# EAGLE library part MC100ELT24 (library 1A-meinLib)
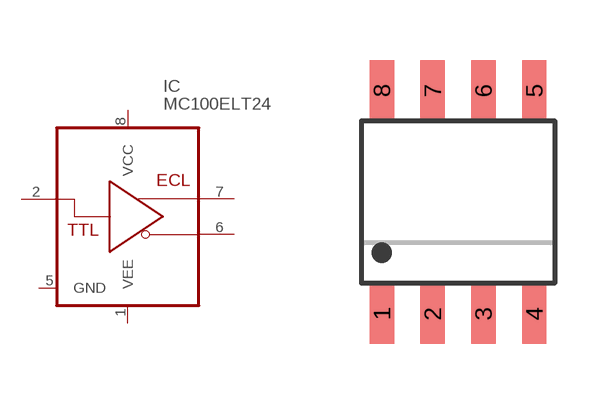
[diagram p79: symbol with the pads of SOIC-8; footprint SOIC-8]

Designator prefix IC

## MC100ELT24  [SOIC-8]
1  VEE  pas
2  D  pas
5  GND  pas
6  -Q  pas
7  Q  pas
8  VCC  pas

## Footprint SOIC-8 (pad centres in mm)
smd 0.61 x 1.524: 1 -1.27,-2.794; 2 0,-2.794; 3 1.27,-2.794; 4 2.54,-2.794; 5 2.54,2.794; 6 1.27,2.794; 7 0,2.794; 8 -1.27,2.794